# Altium schematic symbol library 3D_Components.SchLib: 1 symbol
Pins are listed as number, name and electrical type; pins without a type are passive.

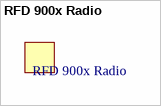
[diagram p0: symbol RFD 900x Radio]

## RFD 900x Radio
designator *  (no BOM)
footprint RFD900X